# Altium schematic symbol library ICS-43434.SchLib: 1 symbol
Pins are listed as number, name and electrical type; pins without a type are passive.

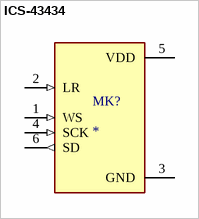
[diagram p0: symbol ICS-43434]

## ICS-43434
designator MK?
Multi-Mode Microphone with I2S Digital Output; MF: {'manufacturer': u'TDK InvenSense'}; MP: ICS-43434; Price: None; Value: *; Availability: Unavailable; Package: None
footprint ICS-43434
pins: 1 WS (in), 2 LR (in), 3 GND (power), 4 SCK (in), 5 VDD (power), 6 SD (out)